# Altium footprint library Remote.PcbLib: 17 footprints (part 2 of 2)
Each footprint in its own frame and in the unit in brackets; x right, y up, seen from the top. Pads: shape width x height; smd on the part's side, far side on the other; paste and mask are expansions set on the pad; w line width, h text height; cw(c..) or ccw(c..) is an arc to the next point about the centre after c.
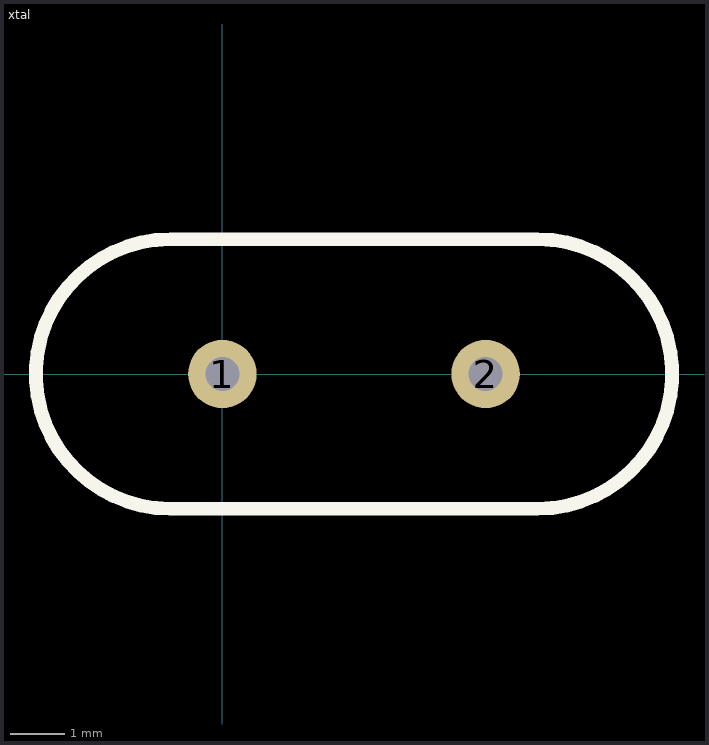
[diagram p1: the footprint, top view; thin cyan lines are the x and y axes]

## xtal [mm]
pads (2):
  round 1.27 hole 0.635: 1(0,0) 2(4.88,0)
Top Overlay:
  lines w0.254: -0.965,-2.5 5.84,-2.5 ccw(c5.84,0) 5.84,2.5 -0.96,2.5 ccw(c-0.96,0) -0.96,-2.5